# EAGLE library part LED_LRTB_G6TG (library open-bldc)
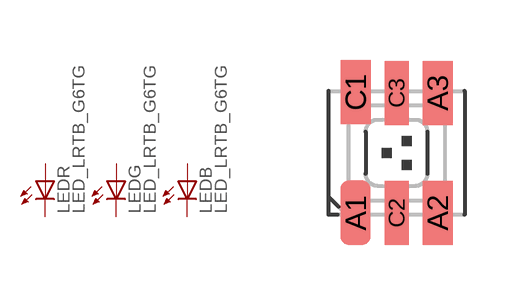
[diagram p8: symbol with the pads of PLCC6; footprint PLCC6]

Designator prefix LED; gates R=LED G=LED B=LED

## LED_LRTB_G6TG  [PLCC6]
A1  R:A  pas
A2  G:A  pas
A3  B:A  pas
C1  R:C  pas
C2  G:C  pas
C3  B:C  pas

## Footprint PLCC6 (pad centres in mm)
smd 0.75 x 1.6: A1 -1.025,-1.5; A2 1.025,-1.5; A3 1.025,1.5; C1 -1.025,1.525
smd 0.6 x 1.6: C2 0,-1.5; C3 0,1.5